# EAGLE library part DG3XX-07 (library degson)
DG350-3.5-07P DG306-5.0-07P
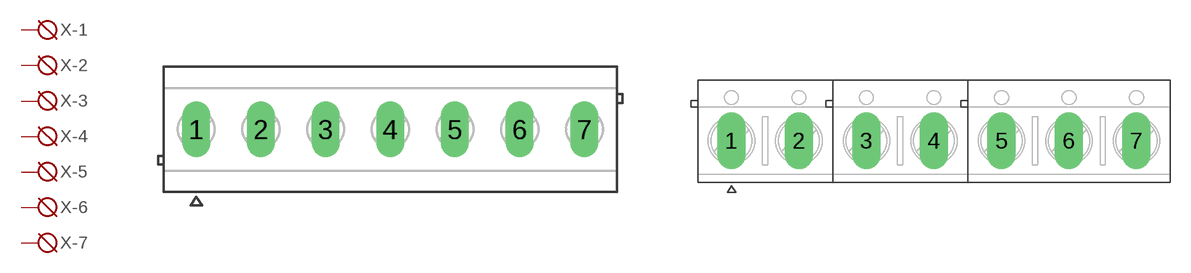
[diagram p1: symbol with the pads of DG350-3.5-07P; footprints DG350-3.5-07P, DG306-5.0-07P]

Designator prefix X; gates -1=KL -2=KL -3=KL -4=KL -5=KL -6=KL -7=KL

## DG3XX-07-3.5  [DG350-3.5-07P]
1  -1:KL  pas
2  -2:KL  pas
3  -3:KL  pas
4  -4:KL  pas
5  -5:KL  pas
6  -6:KL  pas
7  -7:KL  pas

## DG3XX-07-5.0  [DG306-5.0-07P]
Pads as for DG350-3.5-07P

## Footprint DG350-3.5-07P (pad centres in mm)
drill 1 long: 1 -10.5,0; 2 -7,0; 3 -3.5,0; 4 0,0; 5 3.5,0; 6 7,0; 7 10.5,0

## Footprint DG306-5.0-07P (pad centres in mm)
drill 1.4 long: 1 -15,0; 2 -10,0; 3 -5,0; 4 0,0; 5 5,0; 6 10,0; 7 15,0